# Altium footprint library PB10FG.PcbLib: 1 footprints
Each footprint in its own frame and in the unit in brackets; x right, y up, seen from the top. Pads: shape width x height; smd on the part's side, far side on the other; paste and mask are expansions set on the pad; w line width, h text height; cw(c..) or ccw(c..) is an arc to the next point about the centre after c.
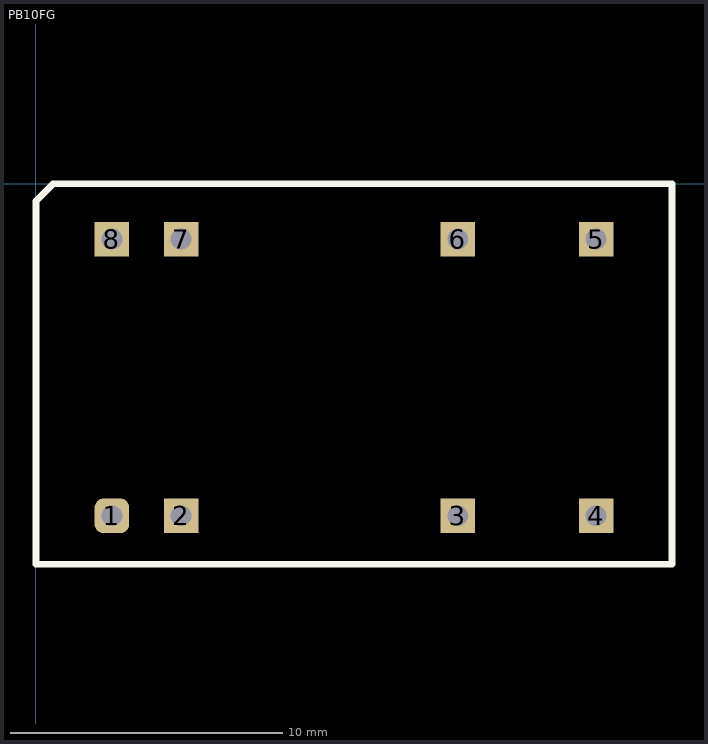
[diagram p0: the footprint, top view; thin cyan lines are the x and y axes]

## PB10FG [mil]
pads (8):
  rrect50% 50x50 hole 30: 1(110,-480)
  rect 50x50 hole 30: 2(210,-480) 3(610,-480) 4(810,-480) 5(810,-80) 6(610,-80) 7(210,-80) 8(110,-80)
Top Overlay:
  lines w10: 0,-550 920,-550 920,0 25,0 0,-25 0,-550
3D body: height 400, standoff 0, extent 0,-550 920,0